# Altium schematic symbol library mySCHLib.SchLib: 70 symbols
Pins are listed as number, name and electrical type; pins without a type are passive.

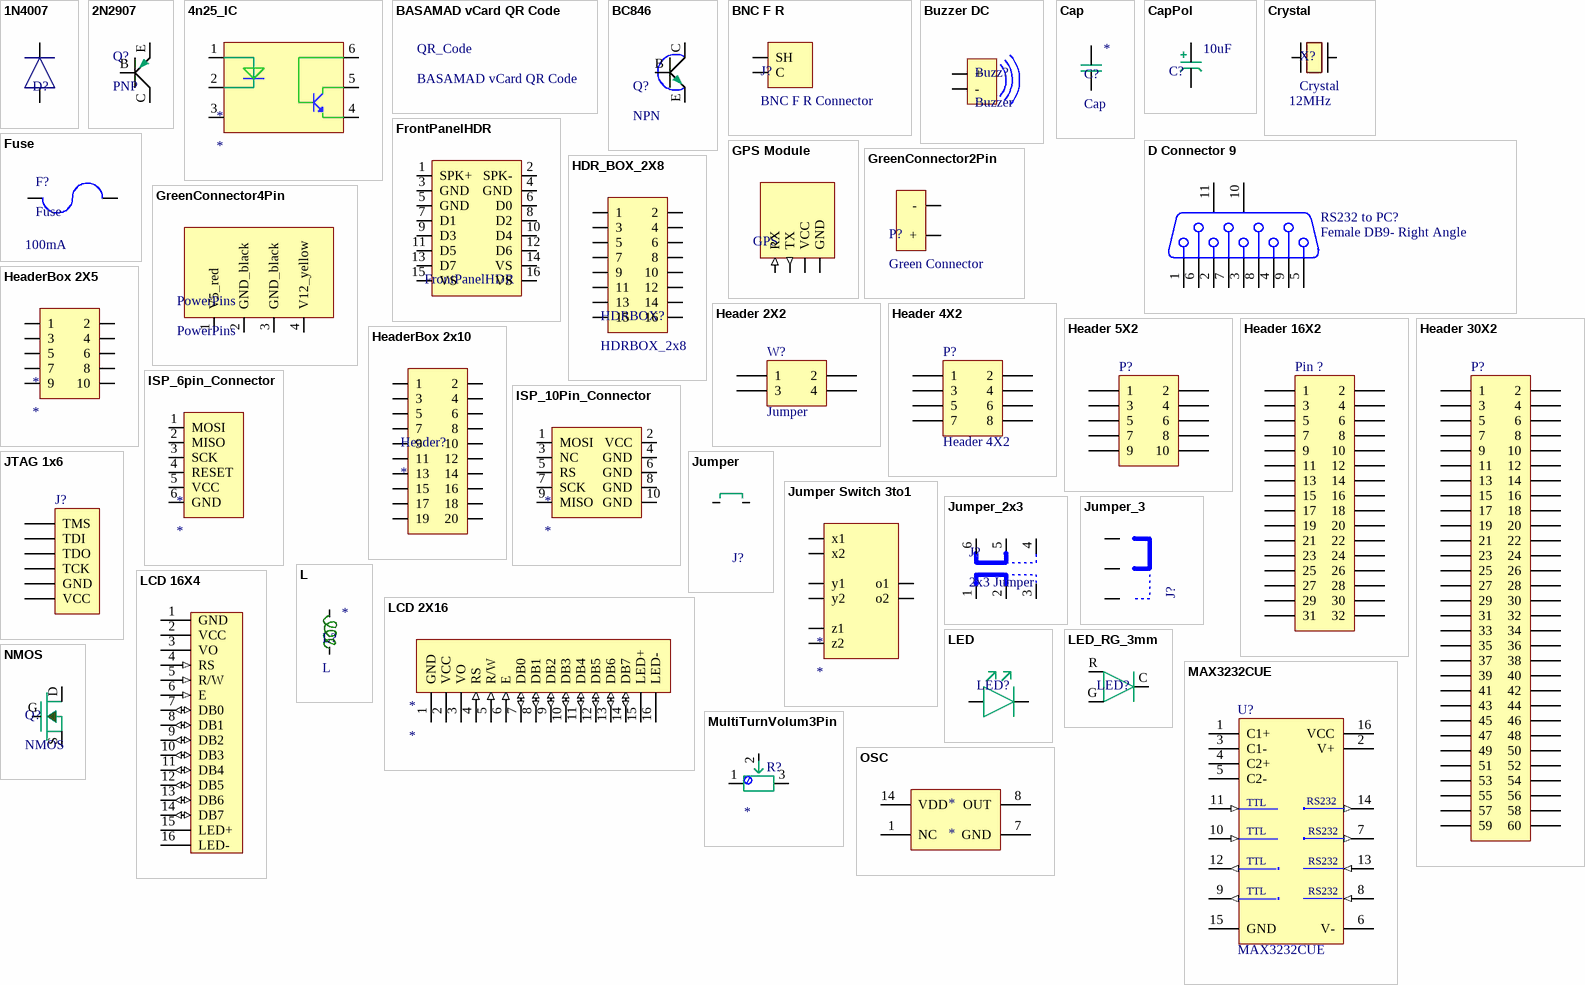
[diagram p0: symbols 1N4007 to OSC]

## 1N4007
designator D?, comment Diode  (value not drawn)
footprint Diode-M7
pins: A, K

## 2N2907
designator Q?, comment PNP
footprint SOT-23
pins: B, C, E

## 4n25_IC
designator *
footprint DIP6
pins: 1, 2, 3, 4, 5, 6

## BASAMAD vCard QR Code
designator QR_Code
footprint BASAMAD vCard QR 80mm
footprint BASAMAD vCard QR 50mm
footprint BASAMAD vCard QR 35mm
footprint BASAMAD vCard QR 40mm

## BC846
designator Q?, comment NPN
footprint SOT-23
pins: B, C, E

## BNC F R
designator J?, comment BNC F R Connector
BNC Female Right Connector
footprint BNC F R Connector (BNC (RJ59) Female Right Onboard Connector)
pins: C, SH

## Buzzer DC
designator Buzz?, comment Buzzer
Buzzer DC 5v
footprint Buzzer 300mil
pins: +, -

## Cap
designator C?
Seramic Capasitor; Value: *
footprint C1206
footprint Cap 100mil
pins: 1, 2

## CapPol
designator C?  value 10uF  (hidden comment: CapPol)
Electrolit Capasitor
footprint CapPol 100mil
footprint CapPol 200mil
footprint CapPol SMD 170
footprint CapPol SMD 210
footprint CapPol SMD 260
footprint CapPol SMD 410
footprint CapPol SMD 510
pins: +, -
1 alternate drawing of the same symbol

## Crystal
designator X?  value 12MHz
footprint Crystal SMD
pins: 1, 2

## D Connector 9
designator RS232 to PC?, comment Female DB9- Right Angle
Receptacle Assembly, 9 Position, Right Angle; PackageDocument: O; Positions: 9; Published: 15-Jun-2001; LatestRevisionDate: 17-Jul-2002; LatestRevisionNote: Re-released for DXP Platform.; DatasheetDocument: 1-Sep-1999; PackageReference: 788750; Publisher: Altium Limited; Orientation: Right Angle; Gender: Receptacle
signal-integrity model Connector
footprint DSUBF1.385-2H9 (Connector; Female D Subminiature; 9 Position; Right Angle; Pitch 1.385 mm)
footprint DSUBM1.385-2H9 (Connector; Male D Subminiature; 9 Position; Right Angle; Pitch 1.385 mm)
pins: 1, 2, 3, 4, 5, 6, 7, 8, 9, 10 MH1, 11 MH2

## FrontPanelHDR
designator FrontPanelHDR  (value not drawn)
Front Pannel Header Connector
footprint HDRBOX_2X8 (Header Box 2x8)
pins: 1 SPK+, 2 SPK-, 3 GND, 4 GND, 5 GND, 6 D0, 7 D1, 8 D2, 9 D3, 10 D4, 11 D5, 12 D6, 13 D7, 14 VS, 15 VS, 16 VS

## Fuse
designator F?  value 100mA
footprint FuseBox OnBoard
footprint Round Pin 2
pins: 1, 2

## GPS Module
designator GPS, comment GPS Serial Module  (value not drawn)
GPS Module with Serial Interface
footprint UR-91_ProGin_GPS_Module (UR-91 ProGin GPS Module)
pins: GND (power), RX (in), TX (out), VCC (power)

## GreenConnector2Pin
designator P?, comment Green Connector
2 Pin Green Connector
footprint GreenConnector2 (2 pin green connector)
pins: + "5 Volt Supply", - "GND"
1 alternate drawing of the same symbol

## GreenConnector4Pin
designator PowerPins, comment PowerPins
4 Pin Green Connector
footprint GreenConnector4
pins: 1 V5_red "5 Volt Supply", 2 GND_black "GND", 3 GND_black "GND", 4 V12_yellow "12 Volt Supply"

## HDR_BOX_2X8
designator HDRBOX?, comment HDRBOX_2x8
footprint HDRBOX_2X8 (Header Box 2x8)
pins: 1, 2, 3, 4, 5, 6, 7, 8, 9, 10, 11, 12, 13, 14, 15, 16

## Header 2X2
designator W?, comment Jumper
Header, 2-Pin, Dual row; LatestRevisionDate: 17-Jul-2002; LatestRevisionNote: Re-released for DXP Platform.; Publisher: Altium Limited
footprint HDR2X2 (Connector; Header; 2x2 Position)
signal-integrity model Connector
pins: 1, 2, 3, 4

## Header 4X2
designator P?
Header, 4-Pin, Dual row; LatestRevisionDate: 17-Jul-2002; LatestRevisionNote: Re-released for DXP Platform.; Publisher: Altium Limited
signal-integrity model Connector
footprint HDR2X4
footprint HDR2X4H
pins: 1, 2, 3, 4, 5, 6, 7, 8

## Header 5X2
designator P?  (value not drawn)
Header, 5-Pin, Dual row; LatestRevisionDate: 17-Jul-2002; LatestRevisionNote: Re-released for DXP Platform.; Publisher: Altium Limited
signal-integrity model Connector
footprint HDR2X5-RA
footprint HDR2X5-ST
pins: 1, 2, 3, 4, 5, 6, 7, 8, 9, 10

## Header 16X2
designator Pin ?, comment Header 16X2, Male  (value not drawn)
Header, 16-Pin, Dual row; LatestRevisionDate: 17-Jul-2002; LatestRevisionNote: Re-released for DXP Platform.; Publisher: Altium Limited
footprint HDR2X16 (Connector; Header; 16x2 Position)
signal-integrity model Connector
footprint HDR2X16-ST-FEMALE
pins: 1, 2, 3, 4, 5, 6, 7, 8, 9, 10, 11, 12, 13, 14, 15, 16, 17, 18, 19, 20, 21, 22, 23, 24, 25, 26, 27, 28, 29, 30, 31, 32

## Header 30X2
designator P?  (value not drawn)
Header, 30-Pin, Dual row; LatestRevisionDate: 17-Jul-2002; LatestRevisionNote: Re-released for DXP Platform.; Publisher: Altium Limited
signal-integrity model Connector
footprint HDR2X30_RA
footprint HDR2X30_ST
pins: 1, 2, 3, 4, 5, 6, 7, 8, 9, 10, 11, 12, 13, 14, 15, 16, 17, 18, 19, 20, 21, 22, 23, 24, 25, 26, 27, 28, 29, 30, 31, 32, 33, 34, 35, 36, 37, 38, 39, 40, 41, 42, 43, 44, 45, 46, 47, 48, 49, 50, 51, 52, 53, 54, 55, 56, 57, 58, 59, 60

## HeaderBox 2X5
designator *
footprint HDRBOX_2X5 (Header Box 2x5)
footprint HDRBOX_2x5_Right
pins: 1, 2, 3, 4, 5, 6, 7, 8, 9, 10

## HeaderBox 2x10
designator Header?
pins: 1, 2, 3, 4, 5, 6, 7, 8, 9, 10, 11, 12, 13, 14, 15, 16, 17, 18, 19, 20

## ISP_6pin_Connector
designator *
footprint ISP_6pin_Connector
pins: 1 MOSI, 2 MISO, 3 SCK, 4 RESET, 5 VCC, 6 GND

## ISP_10Pin_Connector
designator *
footprint ISP_10pin_Connector
pins: 1 MOSI, 2 VCC, 3 NC, 4 GND, 5 RS, 6 GND, 7 SCK, 8 GND, 9 MISO, 10 GND

## JTAG 1x6
designator J?, comment JTAG-Header, 6-Pin  (value not drawn)
Header, 6-Pin; LatestRevisionDate: 17-Jul-2002; LatestRevisionNote: Re-released for DXP Platform.; Publisher: Altium Limited
signal-integrity model Connector
footprint JTAG_1x6 (JTAG 1x6 Pin)
pins: 1 TMS, 2 TDI, 3 TDO, 4 TCK, 5 GND, 6 VCC

## Jumper
designator J?  (value not drawn)
Jumper Wire; Manufacturer: Generic Components; Published: 1999
footprint JUMPER2
pins: 1, 2

## Jumper Switch 3to1
designator *
footprint Jumper Switch 3to1
pins: o1, o2, x1, x2, y1, y2, z1, z2

## Jumper_2x3
designator J?, comment 2x3 Jumper
footprint Jumper2x3
pins: 1, 2, 3, 4, 5, 6

## Jumper_3
designator J?, comment Jumper - Header Pin 2  (value not drawn)
Jumper Wire; Manufacturer: Generic Components; Published: 1999
footprint My_1X03
footprint JUMPER3
pins: 1, 2, 3

## L
designator L?
Seramic Capasitor; Value: *
footprint L1206
pins: 1, 2

## LCD 2X16
designator *
footprint LCD 2X16
pins: 1 GND (power), 2 VCC (power), 3 VO, 4 RS (in), 5 R/W (in), 6 E (in), 7 DB0 (io), 8 DB1 (io), 9 DB2 (io), 10 DB3 (io), 11 DB4 (io), 12 DB5 (io), 13 DB6 (io), 14 DB7 (io), 15 LED+, 16 LED-

## LCD 16X4
designator LCD?  (value not drawn)
LCD 16X4 Character lcd
footprint JDH164A
pins: 1 GND (power), 2 VCC (power), 3 VO, 4 RS (in), 5 R/W (in), 6 E (in), 7 DB0 (io), 8 DB1 (io), 9 DB2 (io), 10 DB3 (io), 11 DB4 (io), 12 DB5 (io), 13 DB6 (io), 14 DB7 (io), 15 LED+, 16 LED-

## LED
designator LED?  (value not drawn)
footprint LED_3mm
footprint LED3mm_HoleOnBoard
footprint LED 1210
pins: A, K

## LED_RG_3mm
designator LED?  (value not drawn)
footprint LED_RG_3mm
pins: C, G, R

## MAX3232CUE
designator U?
3.0V TO 5.5V, Low-Power, up to 1Mbps, True RS-232 Transceiver Using Four 0.1µF External Capacitor; Published: 16-Jan-2001; LatestRevisionDate: 06-Jun-2005; LatestRevisionNote: Stylized 3D Model Added.; DatasheetVersion: Mar-1999; PackageVersion: 21-0066 C; PackageReference: TSSOP16; Publisher: Altium Limited; PackageDescription: Shrink Small Outline; 16 Leads; Body Width 4.4 mm; Pitch 0.65 mm; ComponentLink1Description: Manufacturer Link; ComponentLink1URL: http://www.maxim-ic.com/; ComponentLink2Description: Datasheet; ComponentLink2URL: http://pdfserv.maxim-ic.com/en/ds/MAX3222-MAX3241.pdf
footprint TSSOP16_M (TSOP, 16-Leads, Body 5x4.4mm, Pitch 0.65mm, IPC Low Density)
footprint SOIC16_M (SOIC, 16-Leads, Body 9.9x3.9mm, Pitch 1.27mm, IPC Low Density)
pins: 1 C1+, 2 V+ (power), 3 C1-, 4 C2+, 5 C2-, 6 V- (power), 7 T2OUT (out), 8 R2IN (in), 9 R2OUT (out), 10 T2IN (in), 11 T1IN (in), 12 R1OUT (out), 13 R1IN (in), 14 T1OUT (out), 15 GND (power), 16 VCC (power)
text: TTL; RS232

## MultiTurnVolum3Pin
designator R?
Multiturn potentiometer; Value: *
footprint OneLine3
pins: 1, 2, 3

## NMOS
designator Q?
footprint NMOS SOT-23
pins: D, G, S

## OSC
designator *
footprint OSC dip14
pins: 1 NC "Enable", 7 GND (power) "Ground", 8 OUT "Enable", 14 VDD (power) "Power"

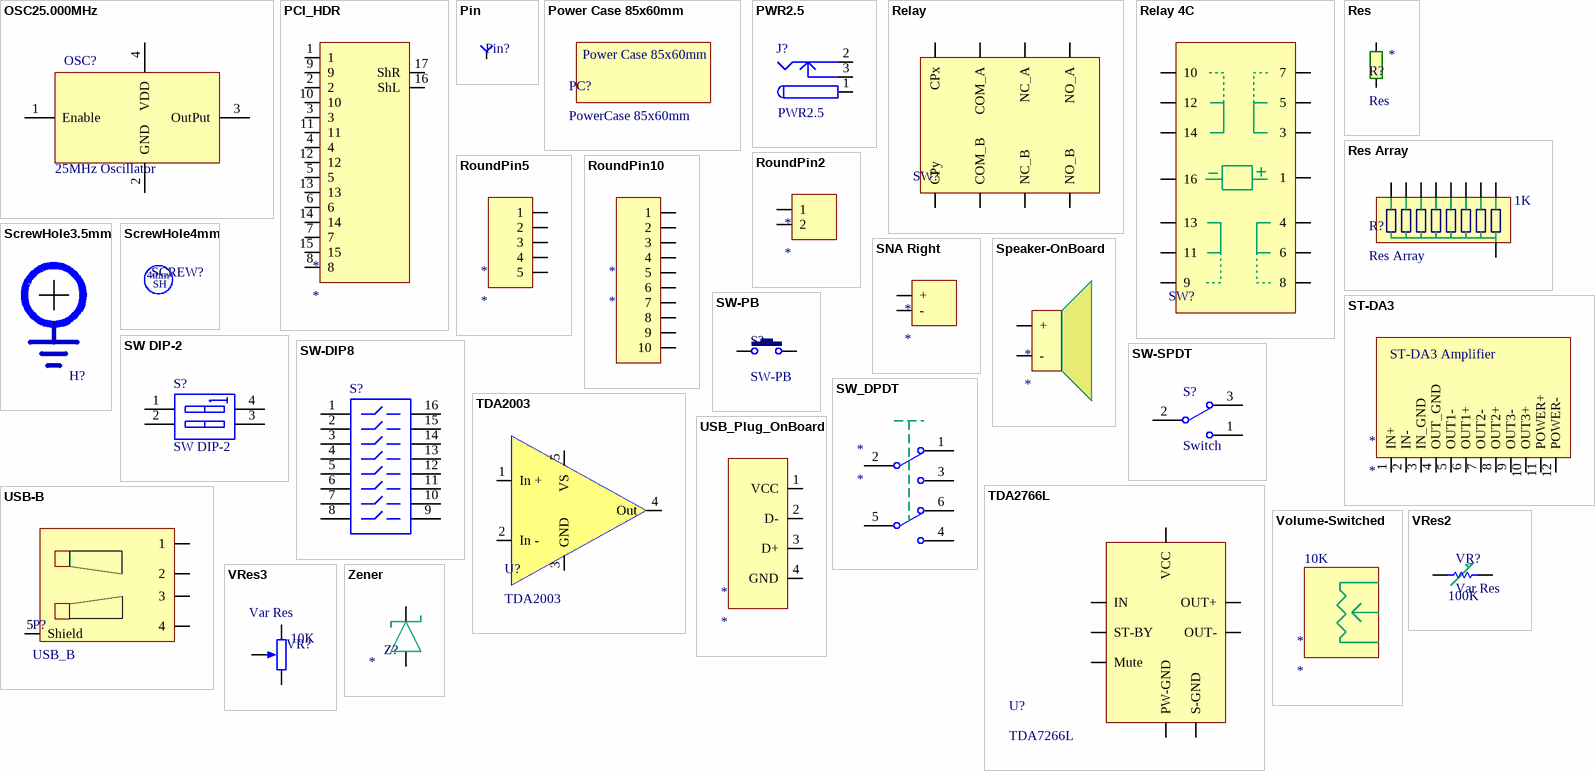
[diagram p1: symbols OSC25.000MHz to Zener]

## OSC25.000MHz
designator OSC?, comment 25MHz Oscillator
Temperature Compensated Crystal Oscillator
footprint OSC25.0MHz (Clock Oscillator, SM; 4 Leads; Body 7 x 5.0 x 1.3 mm (LxWxH))
pins: 1 Enable, 2 GND (power) "Ground", 3 OutPut "Enable", 4 VDD (power) "Power"

## PCI_HDR
designator *
footprint PCI_HDR
pins: 1, 2, 3, 4, 5, 6, 7, 8, 9, 10, 11, 12, 13, 14, 15, 16 ShL, 17 ShR

## Pin
designator Pin?, comment Pin Probe  (value not drawn)
LatestRevisionDate: 17-Jul-2002; LatestRevisionNote: Re-released for DXP Platform.; Publisher: Altium Limited
signal-integrity model Connector
footprint PIN1
pins: 1

## Power Case 85x60mm
designator PC?, comment PowerCase 85x60mm
footprint PowerCaseDC24v1A

## PWR2.5
designator J?
Low Voltage Power Supply Connector; Published: 17-Dec-2003; DatasheetDocument: 09-May-2002; Publisher: Altium Limited; ComponentLink1Description: Manufacturer Link; ComponentLink1URL: http://domino.kycon.com/internet/Products.html
signal-integrity model Connector
footprint KLD-0202
pins: 1 (power), 2 (power), 3 (power)

## Relay
designator SW?  (value not drawn)
Relay 2 Contact 5v
footprint SRC-05VDC-SH (Tele-Comunication Relay)
pins: COM_A, COM_B, CPx, CPy, NC_A, NC_B, NO_A, NO_B

## Relay 4C
designator SW?  (value not drawn)
4 Contact Relay 12 Volt
pins: 1, 3, 4, 5, 6, 7, 8, 9, 10, 11, 12, 13, 14, 16

## Res
designator R?
Resistor; Value: *
footprint R1206
pins: 1, 2

## Res Array
designator R?  value 1K
footprint ResArray8 (8 Resistor Array - 9 pin)
pins: 1, 2, 3, 4, 5, 6, 7, 8, C

## RoundPin2
designator *
footprint Round Pin 2
pins: 1, 2

## RoundPin5
designator *
footprint Round Pin 5
pins: 1, 2, 3, 4, 5

## RoundPin10
designator *
footprint Round Pin 10
pins: 1, 2, 3, 4, 5, 6, 7, 8, 9, 10

## ScrewHole3.5mm
designator H?, comment ScrewHole3.5  (value not drawn)
Screw Hole 3.5 mm
footprint Screw3.5
pins: 1 GND (power) hidden to GND "Ground"

## ScrewHole4mm
designator SCREW?  (value not drawn)
Screw Hole 4 mm
footprint Screw4 (Screw Hode 4mm)
text: 4mm; SH

## SNA Right
designator *
footprint SNA Right
pins: +, -

## Speaker-OnBoard
designator *
footprint SPEAKER-ONBOARD
pins: +, -

## ST-DA3
designator *
footprint ST-DA3 (ST-DA3 Amplifier)
pins: 1 IN+, 2 IN-, 3 IN_GND, 4 OUT_GND, 5 OUT1-, 6 OUT1+, 7 OUT2-, 8 OUT2+, 9 OUT3-, 10 OUT3+, 11 POWER+, 12 POWER-
text: ST-DA3 Amplifier

## SW DIP-2
designator S?
DIP Switch, 2 Position, SPST; Published: 24-Mar-1999; LatestRevisionDate: 17-Jul-2002; LatestRevisionNote: Re-released for DXP Platform.; PackageReference: DIP-4; Publisher: Altium Limited
simulation model dpsw2 (Spice Subcircuit)
footprint DIPSWITCH-4 (DIP; 4 Leads; Row Spacing 7.62 mm; Pitch 2.54 mm)
pins: 1 A1, 2 A2, 3 B2, 4 B1

## SW-DIP8
designator S?  (value not drawn)
4009 Series DIP Switch, Raised actuator; Published: 24-Mar-1999; LatestRevisionDate: 17-Dec-2003; LatestRevisionNote: PCB Footprint replaced.; PackageReference: DIP-16-KEY; Publisher: Altium Limited; ComponentLink1Description: Manufacturer Link; ComponentLink1URL: http://www.oupiin.com/prodindx.html#Headers
simulation model dpsw8 (Spice Subcircuit)
footprint DIPSWITCH-16 (DIP; 16 Leads; Row Spacing 7.62 mm; Pitch 2.54 mm)
pins: 1, 2, 3, 4, 5, 6, 7, 8, 9, 10, 11, 12, 13, 14, 15, 16

## SW-PB
designator S?
Switch; Published: 24-Mar-1999; LatestRevisionDate: 17-Jul-2002; LatestRevisionNote: Re-released for DXP Platform.; PackageReference: SPST-2; Publisher: Altium Limited
footprint Push Button SMD
footprint PUSH BUTTON 2
footprint Push Button 4
pins: 1, 2

## SW-SPDT
designator S?, comment Switch
SPDT Subminiature Toggle Switch, Right Angle Mounting, Vertical Actuation; Published: 24-Mar-1999; LatestRevisionDate: 17-Dec-2003; LatestRevisionNote: Schematic revised, PCB Footprint replaced.; DatasheetDocument: 05-Dec-2000; PackageReference: TL36WW15050; Publisher: Altium Limited; ComponentLink1Description: Manufacturer Link; ComponentLink1URL: http://www.apem.com
footprint 2_STATE_SWITCH
pins: 1, 2, 3

## SW_DPDT
designator *
footprint SW DPDT Push
footprint SW DPDT Slide
pins: 1, 2, 3, 4, 5, 6

## TDA2003
designator U?
TDA2003 Audio Amplifier
footprint Pentawatt V
pins: 1 In + "Non-Inverting Input", 2 In - "Inverting Input", 3 GND "Ground", 4 Out "Output", 5 VS "Supply Voltage"

## TDA2766L
designator U?, comment TDA7266L
footprint TDA7266L-SleepLeft
footprint TDA7266L-SleepRight
footprint TDA7266L-Stand
pins: 3 Mute, 4 ST-BY, 5 PW-GND, 6 S-GND, 7 IN, 8 VCC, 9 OUT-, 10 OUT+

## USB-B
designator P?, comment USB_B
USB port type B
footprint USB_B
pins: 1, 2, 3, 4, 5 Shield

## USB_Plug_OnBoard
designator *
footprint USB_Plug_OnBoard
pins: 1 VCC, 2 D-, 3 D+, 4 GND

## Volume-Switched
designator *  value 10K
footprint Volume-Switched

## VRes2
designator VR?, comment Var Res  value 100K
Variable Resistor 2 Tap
footprint VRES2 (Variable Resistor 2 Tap 175x150 mil)
pins: 1, 3

## VRes3
designator VR?, comment Var Res  value 10K
Variable Resistor 3 Tap
footprint VRES3 (Variable Resistor 3 Tap 150x125 mil)
footprint PotMultiTurn
pins: 1, 2, 3

## Zener
designator Z?  (value not drawn)
Zener Diod; Value: *
footprint Zener-SMD
footprint Diode5W
footprint Zener 0.5W Axial 350mil
pins: A, K